# Altium footprint library LARS_409_MC.PCBLIB: 33 footprints (part 1 of 3)
Each footprint in its own frame and in the unit in brackets; x right, y up, seen from the top. Pads: shape width x height; smd on the part's side, far side on the other; paste and mask are expansions set on the pad; w line width, h text height; cw(c..) or ccw(c..) is an arc to the next point about the centre after c.
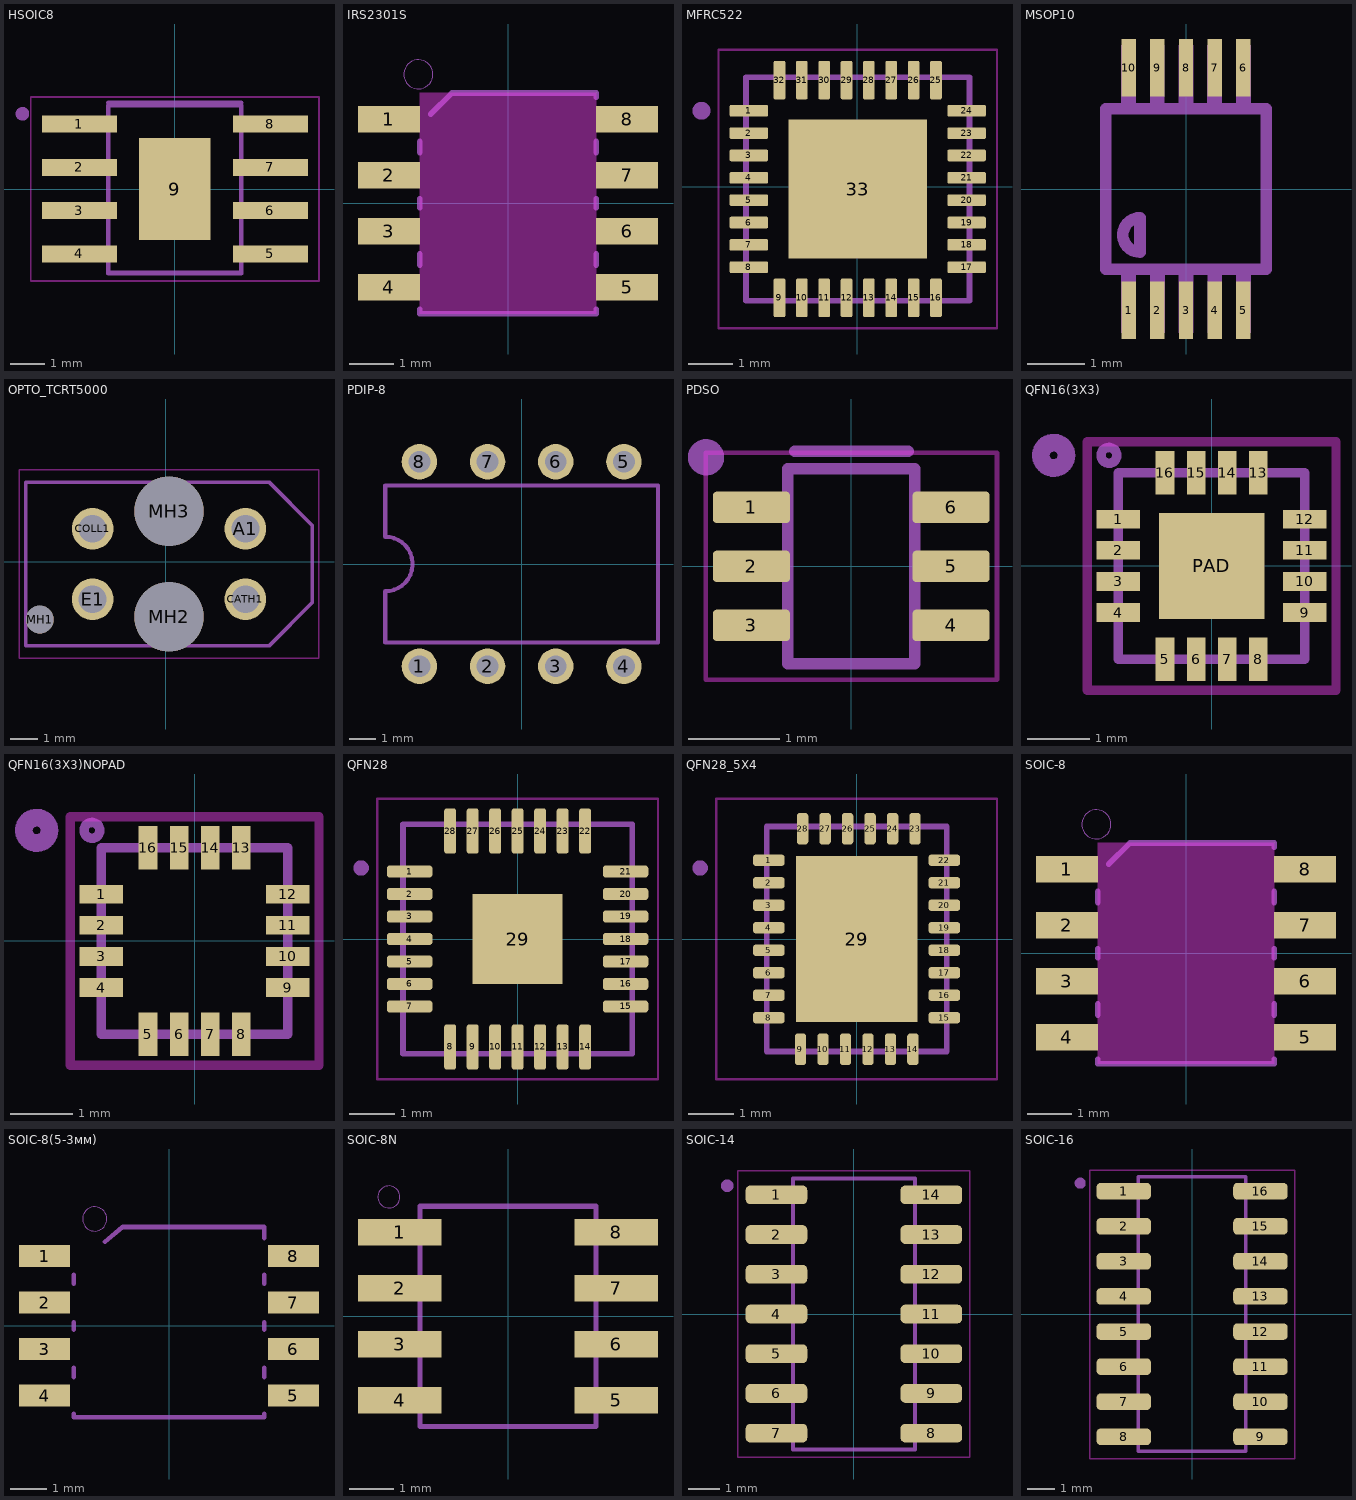
[diagram p0: the footprints below, top view; thin cyan lines are the x and y axes]

## HSOIC8 [mm]
pads (9):
  rect 2.2x0.5 smd: 1(-2.8,1.905) 2(-2.8,0.635) 3(-2.8,-0.635) 4(-2.8,-1.905) 5(2.8,-1.905) 6(2.8,-0.635) 7(2.8,0.635) 8(2.8,1.905)
  rect 2.1x3 smd: 9(0,0)
Top keep-out:
  lines w0.05: -4.225,-2.7 4.225,-2.7 4.225,2.7 -4.225,2.7 -4.225,-2.7
tDocu:
  circle w0.2: c-4.47,2.205 r0.1
  lines w0.127: -1.95,-2.45 1.95,-2.45 1.95,2.45 -1.95,2.45 -1.95,-2.45
tPlace:
  circle w0.2: c-4.47,2.205 r0.1
  lines w0.127: -1.95,-2.475 1.95,-2.475 ; -1.95,2.525 1.95,2.525

## IRS2301S [mm]
pads (8):
  rect 1.4x0.6 smd: 1(-2.7,1.905) 2(-2.7,0.635) 3(-2.7,-0.635) 4(-2.7,-1.905) 5(2.7,-1.905) 6(2.7,-0.635) 7(2.7,0.635) 8(2.7,1.905)
Top keep-out:
  region: -2,2.5 2,2.5 2,-2.5 -2,-2.5
tPlace:
  circle w0: c-2.032,2.921 r0.33
  lines w0.127: -2,-2.4 -2,-2.5 2,-2.5 2,-2.4 ; -2,-1.4 -2,-1.15 ; -2,-0.1 -2,0.1 ; -2,1.15 -2,1.4 ; -1.75,2.019 -1.269,2.5 2,2.5 2,2.4 ; 2,-1.4 2,-1.15 ; 2,-0.1 2,0.1 ; 2,1.15 2,1.4

## MFRC522 [mm]
pads (33):
  rrect25% 0.86x0.26 smd: 1(-2.425,1.7) 2(-2.425,1.2) 3(-2.425,0.7) 4(-2.425,0.2) 5(-2.425,-0.3) 6(-2.425,-0.8) 7(-2.425,-1.3) 8(-2.425,-1.8) 17(2.445,-1.8) 18(2.445,-1.3) 19(2.445,-0.8) 20(2.445,-0.3) 21(2.445,0.2) 22(2.445,0.7) 23(2.445,1.2) 24(2.445,1.7)
  rrect25% 0.26x0.86 smd: 9(-1.74,-2.485) 10(-1.24,-2.485) 11(-0.74,-2.485) 12(-0.24,-2.485) 13(0.26,-2.485) 14(0.76,-2.485) 15(1.26,-2.485) 16(1.76,-2.485) 25(1.76,2.385) 26(1.26,2.385) 27(0.76,2.385) 28(0.26,2.385) 29(-0.24,2.385) 30(-0.74,2.385) 31(-1.24,2.385) 32(-1.74,2.385)
  rect 3.1x3.1 smd paste+0: 33(0.01,-0.05)
Top keep-out:
  lines w0.05: -3.105,-3.165 -3.105,3.065 3.125,3.065 3.125,-3.165 -3.105,-3.165
Top Paste:
  region: -0.97,-1.03 -0.97,0.93 0.99,0.93 0.99,-1.03
tDocu:
  circle w0.2: c-3.485,1.7 r0.1
  lines w0.127: -2.49,-2.55 -2.49,2.45 2.51,2.45 2.51,-2.55 -2.49,-2.55
tPlace:
  circle w0.2: c-3.485,1.7 r0.1
  lines w0.127: -2.49,-2.2 -2.49,-2.55 -2.14,-2.55 ; -2.49,2.1 -2.49,2.45 -2.14,2.45 ; 2.16,-2.55 2.51,-2.55 2.51,-2.2 ; 2.16,2.45 2.51,2.45 2.51,2.1

## MSOP10 [mm]
pads (10):
  rect 0.25x1 smd: 1(-1,-2.113) 2(-0.5,-2.113) 3(0,-2.113) 4(0.5,-2.113) 5(1,-2.113) 6(1,2.113) 7(0.5,2.113) 8(0,2.113) 9(-0.5,2.113) 10(-1,2.113)
tDocu:
  region: -0.876,2.5 -0.876,1.5 -1.126,1.5 -1.126,2.5
  region: -0.376,2.5 -0.376,1.5 -0.626,1.5 -0.626,2.5
  region: 0.124,2.5 0.124,1.5 -0.125,1.5 -0.125,2.5
  region: 0.624,2.5 0.624,1.5 0.374,1.5 0.374,2.5
  region: 1.124,2.5 1.124,1.5 0.875,1.5 0.875,2.5
  region: 0.876,-2.5 0.876,-1.5 1.126,-1.5 1.126,-2.5
  region: 0.376,-2.5 0.376,-1.5 0.626,-1.5 0.626,-2.5
  region: -0.124,-2.5 -0.124,-1.5 0.125,-1.5 0.125,-2.5
  region: -0.624,-2.5 -0.624,-1.5 -0.374,-1.5 -0.374,-2.5
  region: -1.124,-2.5 -1.124,-1.5 -0.875,-1.5 -0.875,-2.5
tPlace:
  lines w0.203: -1.4,-1.4 -1.4,1.4 1.4,1.4 1.4,-1.4 -1.4,-1.4 ; -0.8,-1.1 cw(c-0.8,-0.8) -0.8,-0.5 -0.8,-1.1

## OPTO_TCRT5000 [mm]
pads (7):
  round 1.5 hole 1: A1(2.86,1.19) CATH1(2.86,-1.35) COLL1(-2.64,1.19) E1(-2.64,-1.35)
  round 1 hole 1 unplated: MH1(-4.54,-2.08)
  round 2.5 hole 2.5 unplated: MH2(0.11,-1.98) MH3(0.11,1.82)
Top keep-out:
  lines w0.05: -5.29,-3.48 -5.29,3.32 5.51,3.32 5.51,-3.48 -5.29,-3.48
tDocu:
  lines w0.127: -5.04,-3.03 -5.04,2.87 3.71,2.87 5.26,1.32 5.26,-1.48 3.71,-3.03 -5.04,-3.03
tPlace:
  lines w0.127: -5.04,-1.88 -5.04,2.87 -1.06,2.87 ; -3.89,-3.03 -1.06,-3.03 ; 1.28,-3.03 3.71,-3.03 5.26,-1.48 5.26,1.32 3.71,2.87 1.28,2.87

## PDIP-8 [mil]
pads (8):
  round 52 hole 32: 1(-150,-150) 2(-50,-150) 3(50,-150) 4(150,-150) 5(150,150) 6(50,150) 7(-50,150) 8(-150,150)
tPlace:
  lines w6: -200,-115 200,-115 200,115 -200,115 -200,40 cw(c-200,0) -200,-40 -200,-115

## PDSO [mm]
pads (6):
  rrect25% 0.85x0.35 smd: 1(-1.1,0.65) 2(-1.1,0) 3(-1.1,-0.65) 4(1.1,-0.65) 5(1.1,0) 6(1.1,0.65)
Top keep-out:
  lines w0.05: -1.605,-1.25 1.605,-1.25 1.605,1.25 -1.605,1.25 -1.605,-1.25
tDocu:
  circle w0.2: c-1.6,1.202 r0.1
  lines w0.127: -0.7,-1.075 0.7,-1.075 0.7,1.075 -0.7,1.075 -0.7,-1.075
tPlace:
  circle w0.2: c-1.6,1.202 r0.1
  lines w0.127: -0.625,1.27 0.625,1.27

## QFN16(3X3) [mm]
pads (17):
  rect 0.7x0.3 smd: 1(-1.5,0.75) 2(-1.5,0.25) 3(-1.5,-0.25) 4(-1.5,-0.75) 9(1.5,-0.75) 10(1.5,-0.25) 11(1.5,0.25) 12(1.5,0.75)
  rect 0.3x0.7 smd: 5(-0.75,-1.5) 6(-0.25,-1.5) 7(0.25,-1.5) 8(0.75,-1.5) 13(0.75,1.5) 14(0.25,1.5) 15(-0.25,1.5) 16(-0.75,1.5)
  rect 1.7x1.7 smd: PAD(0,0)
Top keep-out:
  lines w0.152: -2,-2 -2,2 2,2 2,-2 -2,-2
tPlace:
  circle w0.127: c-2.54,1.778 r0.18
  circle w0.127: c-2.54,1.778 r0.127
  circle w0.127: c-2.54,1.778 r0.284
  circle w0.152: c-1.651,1.778 r0.127
  lines w0.152: -1.5,-1.5 -1.5,1.5 1.5,1.5 1.5,-1.5 -1.5,-1.5
3D body "ALSRobot-QFN16 3x3.STEP": height 0.9, standoff 0, extent -1.549,-1.521 1.493,1.521

## QFN16(3X3)NOPAD [mm]
pads (16):
  rect 0.7x0.3 smd: 1(-1.5,0.75) 2(-1.5,0.25) 3(-1.5,-0.25) 4(-1.5,-0.75) 9(1.5,-0.75) 10(1.5,-0.25) 11(1.5,0.25) 12(1.5,0.75)
  rect 0.3x0.7 smd: 5(-0.75,-1.5) 6(-0.25,-1.5) 7(0.25,-1.5) 8(0.75,-1.5) 13(0.75,1.5) 14(0.25,1.5) 15(-0.25,1.5) 16(-0.75,1.5)
Top keep-out:
  lines w0.152: -2,-2 -2,2 2,2 2,-2 -2,-2
tPlace:
  circle w0.127: c-2.54,1.778 r0.18
  circle w0.127: c-2.54,1.778 r0.127
  circle w0.127: c-2.54,1.778 r0.284
  circle w0.152: c-1.651,1.778 r0.127
  lines w0.152: -1.5,-1.5 -1.5,1.5 1.5,1.5 1.5,-1.5 -1.5,-1.5
3D body "ALSRobot-QFN16 3x3.STEP": height 0.9, standoff 0, extent -1.549,-1.521 1.493,1.521

## QFN28 [mm]
pads (29):
  rrect50% 1.01x0.27 smd: 1(-2.4,1.5) 2(-2.4,1) 3(-2.4,0.5) 4(-2.4,0) 5(-2.4,-0.5) 6(-2.4,-1) 7(-2.4,-1.5) 15(2.4,-1.5) 16(2.4,-1) 17(2.4,-0.5) 18(2.4,0) 19(2.4,0.5) 20(2.4,1) 21(2.4,1.5)
  rrect50% 0.27x1.01 smd: 8(-1.5,-2.4) 9(-1,-2.4) 10(-0.5,-2.4) 11(0,-2.4) 12(0.5,-2.4) 13(1,-2.4) 14(1.5,-2.4) 22(1.5,2.4) 23(1,2.4) 24(0.5,2.4) 25(0,2.4) 26(-0.5,2.4) 27(-1,2.4) 28(-1.5,2.4)
  rect 2x2 smd paste+0: 29(0,0)
Top keep-out:
  lines w0.05: -3.12,-3.12 3.12,-3.12 3.12,3.12 -3.12,3.12 -3.12,-3.12
tDocu:
  lines w0.127: -2.55,-2.55 2.55,-2.55 2.55,2.55 -2.55,2.55 -2.55,-2.55
tPlace:
  circle w0.2: c-3.478,1.578 r0.07
  lines w0.127: -2.55,-2 -2.55,-2.55 -1.95,-2.55 ; -2.55,1.95 -2.55,2.55 -2,2.55 ; 2,-2.55 2.55,-2.55 2.55,-2.1 ; 2,2.55 2.55,2.55 2.55,1.95

## QFN28_5X4 [mm]
pads (29):
  rrect50% 0.7x0.25 smd: 1(-1.95,1.75) 2(-1.95,1.25) 3(-1.95,0.75) 4(-1.95,0.25) 5(-1.95,-0.25) 6(-1.95,-0.75) 7(-1.95,-1.25) 8(-1.95,-1.75) 15(1.95,-1.75) 16(1.95,-1.25) 17(1.95,-0.75) 18(1.95,-0.25) 19(1.95,0.25) 20(1.95,0.75) 21(1.95,1.25) 22(1.95,1.75)
  rrect50% 0.25x0.7 smd: 9(-1.25,-2.45) 10(-0.75,-2.45) 11(-0.25,-2.45) 12(0.25,-2.45) 13(0.75,-2.45) 14(1.25,-2.45) 23(1.3,2.45) 24(0.8,2.45) 25(0.3,2.45) 26(-0.2,2.45) 27(-0.7,2.45) 28(-1.2,2.45)
  rect 2.7x3.7 smd paste+0: 29(0,0)
Top keep-out:
  lines w0.05: -3.12,-3.12 3.12,-3.12 3.12,3.12 -3.12,3.12 -3.12,-3.12
tDocu:
  lines w0.127: -2,-2.5 2,-2.5 2,2.5 -2,2.5 -2,-2.5
tPlace:
  circle w0.2: c-3.478,1.578 r0.07

## SOIC-8 [mm]
pads (8):
  rect 1.4x0.6 smd: 1(-2.7,1.905) 2(-2.7,0.635) 3(-2.7,-0.635) 4(-2.7,-1.905) 5(2.7,-1.905) 6(2.7,-0.635) 7(2.7,0.635) 8(2.7,1.905)
Top keep-out:
  region: -2,2.5 2,2.5 2,-2.5 -2,-2.5
tPlace:
  circle w0: c-2.032,2.921 r0.33
  lines w0.127: -2,-2.4 -2,-2.5 2,-2.5 2,-2.4 ; -2,-1.4 -2,-1.15 ; -2,-0.1 -2,0.1 ; -2,1.15 -2,1.4 ; -1.75,2.019 -1.269,2.5 2,2.5 2,2.4 ; 2,-1.4 2,-1.15 ; 2,-0.1 2,0.1 ; 2,1.15 2,1.4
3D body "soic8.step": height 1.75, standoff 0, extent -3,-2.5 3,2.5

## SOIC-8(5-3мм) [mm]
pads (8):
  rect 1.4x0.6 smd: 1(-3.4,1.905) 2(-3.4,0.635) 3(-3.4,-0.635) 4(-3.4,-1.905) 5(3.4,-1.905) 6(3.4,-0.635) 7(3.4,0.635) 8(3.4,1.905)
tPlace:
  circle w0: c-2.032,2.921 r0.33
  lines w0.127: -2.6,-2.4 -2.6,-2.5 2.6,-2.5 2.6,-2.4 ; -2.6,-1.4 -2.6,-1.15 ; -2.6,-0.1 -2.6,0.1 ; -2.6,1.15 -2.6,1.4 ; -1.75,2.3 -1.269,2.7 2.6,2.7 2.6,2.4 ; 2.6,-1.4 2.6,-1.15 ; 2.6,-0.1 2.6,0.1 ; 2.6,1.15 2.6,1.4

## SOIC-8N [mm]
pads (8):
  rect 1.901x0.602 smd: 1(-2.455,1.905) 2(-2.455,0.635) 3(-2.455,-0.635) 4(-2.455,-1.905) 5(2.455,-1.905) 6(2.455,-0.635) 7(2.455,0.635) 8(2.455,1.905)
tDocu:
  lines w0.12: -2,-2.5 2,-2.5 2,2.5 -2,2.5 -2,-2.5
tPlace:
  circle w0: c-2.703,2.71 r0.25
  lines w0.12: -2,-2.46 -2,-2.5 2,-2.5 2,-2.46 ; -2,2.46 -2,2.5 2,2.5 2,2.46
3D body "soic8.step": height 1.75, standoff 0, extent -3,-2.5 3,2.5

## SOIC-14 [mm]
pads (14):
  rrect50% 1.97x0.6 smd: 1(-2.475,3.81) 2(-2.475,2.54) 3(-2.475,1.27) 4(-2.475,0) 5(-2.475,-1.27) 6(-2.475,-2.54) 7(-2.475,-3.81) 8(2.475,-3.81) 9(2.475,-2.54) 10(2.475,-1.27) 11(2.475,0) 12(2.475,1.27) 13(2.475,2.54) 14(2.475,3.81)
Top keep-out:
  lines w0.05: -3.71,-4.575 3.71,-4.575 3.71,4.575 -3.71,4.575 -3.71,-4.575
tDocu:
  circle w0.2: c-4.05,4.1 r0.1
  lines w0.127: -1.95,-4.325 1.95,-4.325 1.95,4.325 -1.95,4.325 -1.95,-4.325
tPlace:
  circle w0.2: c-4.05,4.1 r0.1
  lines w0.127: -1.17,-4.325 1.17,-4.325 ; -1.17,4.325 1.17,4.325

## SOIC-16 [mm]
pads (16):
  rrect50% 1.97x0.6 smd: 1(-2.475,4.445) 2(-2.475,3.175) 3(-2.475,1.905) 4(-2.475,0.635) 5(-2.475,-0.635) 6(-2.475,-1.905) 7(-2.475,-3.175) 8(-2.475,-4.445) 9(2.475,-4.445) 10(2.475,-3.175) 11(2.475,-1.905) 12(2.475,-0.635) 13(2.475,0.635) 14(2.475,1.905) 15(2.475,3.175) 16(2.475,4.445)
Top keep-out:
  lines w0.05: -3.71,-5.24 -3.71,5.21 3.71,5.21 3.71,-5.24 -3.71,-5.24
tDocu:
  circle w0.2: c-4.05,4.735 r0.1
  lines w0.127: -1.95,-4.96 -1.95,4.96 1.95,4.96 1.95,-4.96 -1.95,-4.96
tPlace:
  circle w0.2: c-4.05,4.735 r0.1
  lines w0.127: -1.17,-4.96 1.17,-4.96 ; -1.17,4.96 1.17,4.96
3D body "SOIC127P600X175-16N.step": height 1.75, standoff 0, extent -3.1,-5 3.1,5